# Altium footprint library HANDS-FREEE-PcbLib-V1.11.PcbLib: 211 footprints (part 11 of 14)
Each footprint in its own frame and in the unit in brackets; x right, y up, seen from the top. Pads: shape width x height; smd on the part's side, far side on the other; paste and mask are expansions set on the pad; w line width, h text height; cw(c..) or ccw(c..) is an arc to the next point about the centre after c.
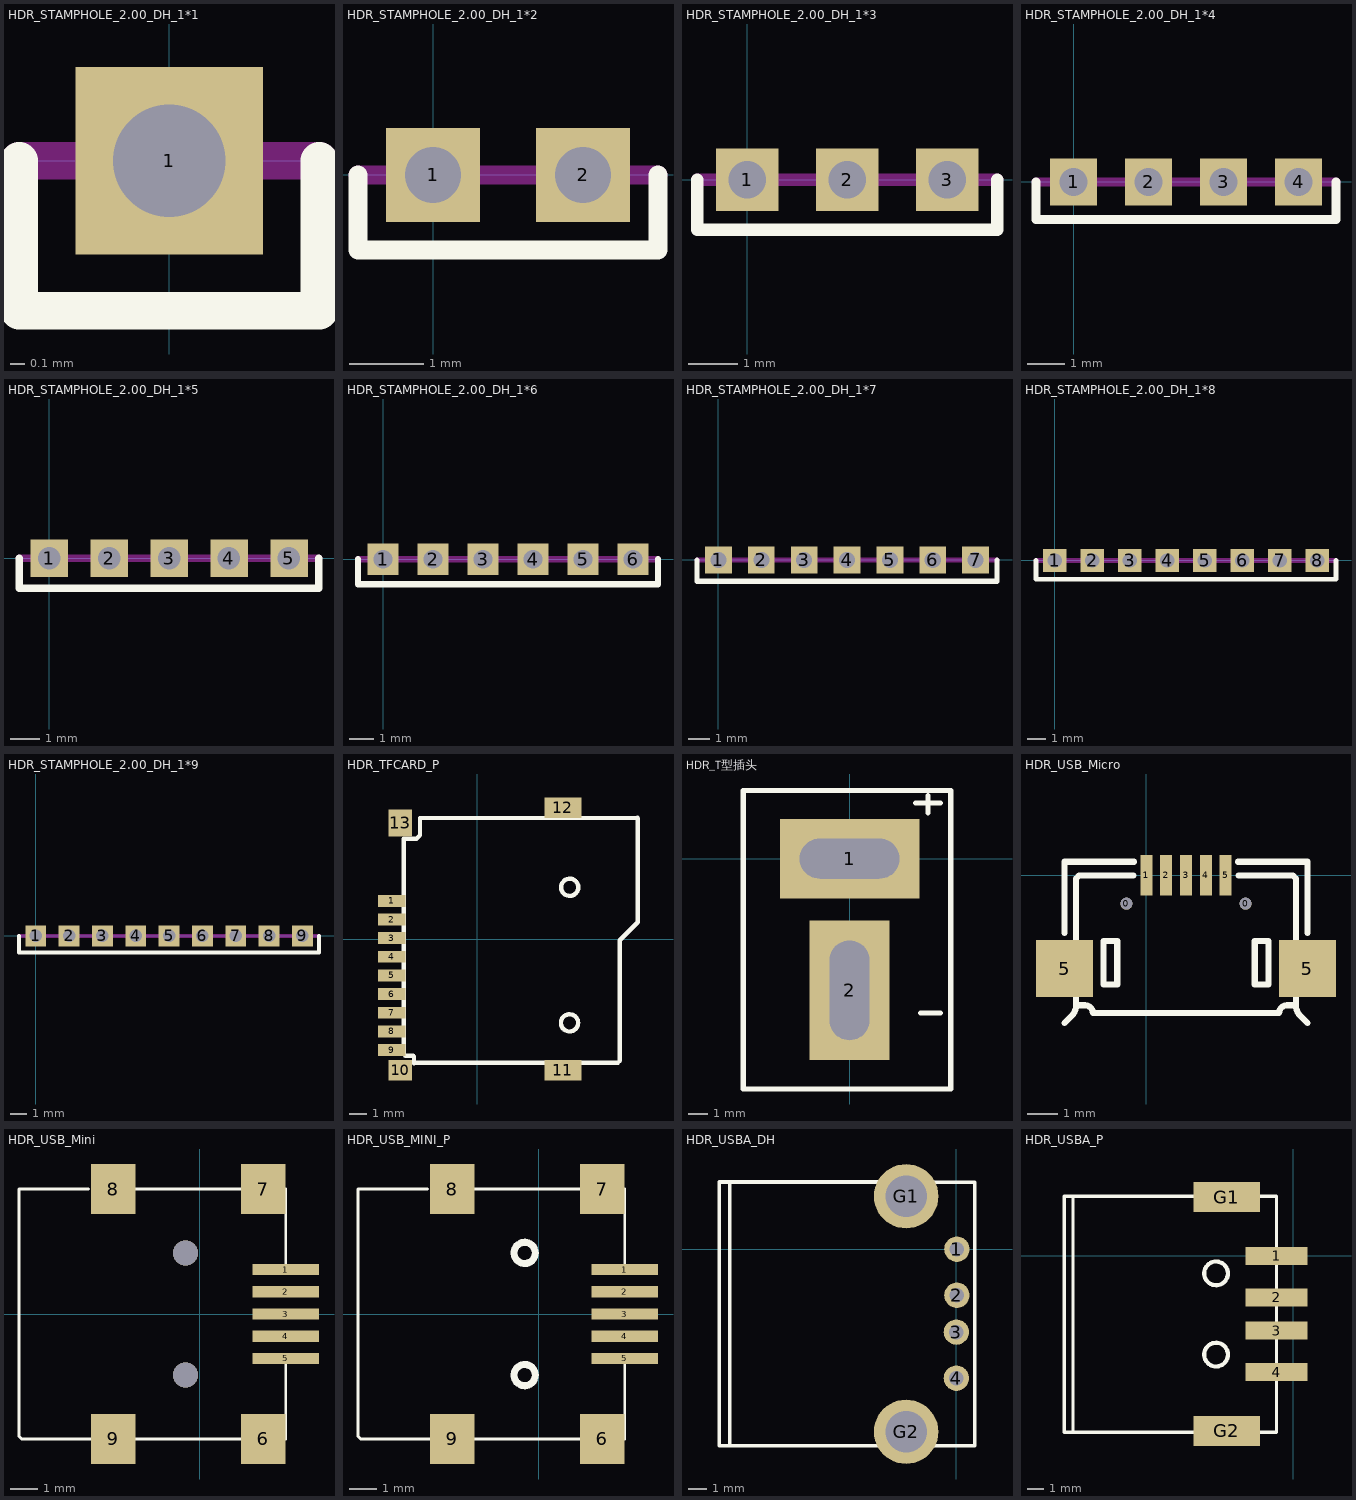
[diagram p10: the footprints below, top view; thin cyan lines are the x and y axes]

## HDR_STAMPHOLE_2.00_DH_1*1 [mil]
pads (1):
  rect 50x50 hole 30: 1(0,0)
Top Overlay:
  lines w10: -40,0 -40,-40 40,-40 40,0
Keep-Out Layer:
  lines w10: -40,0 40,0

## HDR_STAMPHOLE_2.00_DH_1*2 [mil]
pads (2):
  rect 50x50 hole 30: 1(0,0) 2(80,0)
Top Overlay:
  lines w10: -40,0 -40,-40 120,-40 120,0
Keep-Out Layer:
  lines w10: -40,0 120,0

## HDR_STAMPHOLE_2.00_DH_1*3 [mil]
pads (3):
  rect 50x50 hole 30: 1(0,0) 2(80,0) 3(160,0)
Top Overlay:
  lines w10: -40,0 -40,-40 200,-40 200,0
Keep-Out Layer:
  lines w10: -40,0 200,0

## HDR_STAMPHOLE_2.00_DH_1*4 [mil]
pads (4):
  rect 50x50 hole 30: 1(0,0) 2(80,0) 3(160,0) 4(240,0)
Top Overlay:
  lines w10: -40,0 -40,-40 280,-40 280,0
Keep-Out Layer:
  lines w10: -40,0 280,0

## HDR_STAMPHOLE_2.00_DH_1*5 [mil]
pads (5):
  rect 50x50 hole 30: 1(0,0) 2(80,0) 3(160,0) 4(240,0) 5(320,0)
Top Overlay:
  lines w10: -40,0 -40,-40 360,-40 360,0
Keep-Out Layer:
  lines w10: -40,0 360,0

## HDR_STAMPHOLE_2.00_DH_1*6 [mil]
pads (6):
  rect 50x50 hole 30: 1(0,0) 2(80,0) 3(160,0) 4(240,0) 5(320,0) 6(400,0)
Top Overlay:
  lines w10: -40,0 -40,-40 440,-40 440,0
Keep-Out Layer:
  lines w10: -40,0 440,0

## HDR_STAMPHOLE_2.00_DH_1*7 [mil]
pads (7):
  rect 50x50 hole 30: 1(0,0) 2(80,0) 3(160,0) 4(240,0) 5(320,0) 6(400,0) 7(480,0)
Top Overlay:
  lines w10: -40,0 -40,-40 520,-40 520,0
Keep-Out Layer:
  lines w10: -40,0 520,0

## HDR_STAMPHOLE_2.00_DH_1*8 [mil]
pads (8):
  rect 50x50 hole 30: 1(0,0) 2(80,0) 3(160,0) 4(240,0) 5(320,0) 6(400,0) 7(480,0) 8(560,0)
Top Overlay:
  lines w10: -40,0 -40,-40 600,-40 600,0
Keep-Out Layer:
  lines w10: -40,0 600,0

## HDR_STAMPHOLE_2.00_DH_1*9 [mil]
pads (9):
  rect 50x50 hole 30: 1(0,0) 2(80,0) 3(160,0) 4(240,0) 5(320,0) 6(400,0) 7(480,0) 8(560,0) 9(640,0)
Top Overlay:
  lines w10: -40,0 -40,-40 680,-40 680,0
Keep-Out Layer:
  lines w10: -40,0 680,0

## HDR_TFCARD_P [mm]
pads (13):
  rect 1.6x0.7 smd: 1(-5.05,2.25) 2(-5.05,1.15) 3(-5.05,0.05) 4(-5.05,-1.05) 5(-5.05,-2.15) 6(-5.05,-3.25) 7(-5.05,-4.35) 8(-5.05,-5.45) 9(-5.05,-6.55)
  rect 1.4x1.2 smd: 10(-4.55,-7.75)
  rect 2.2x1.2 smd: 11(5.05,-7.75) 12(5.05,7.75)
  rect 1.4x1.6 smd: 13(-4.55,6.85)
Top Overlay:
  circle w0.254: c5.439,-4.948 r0.508
  circle w0.254: c5.45,3.05 r0.508
  lines w0.254: -3.738,-7.344 -3.738,-6.937 -3.789,-6.886 -4.246,-6.886 -4.348,-6.785 -4.348,5.915 -3.586,5.915 -3.383,6.118 -3.383,7.134 9.45,7.15 ; -3.688,-7.293 8.301,-7.293 8.403,-7.191 8.403,-0.079 9.47,0.988 9.47,7.13

## HDR_T型插头 [mm]
pads (2):
  rect 7x4 hole 2 slot 5 at 0 deg: 1(0,0)
  rect 4x7 hole 2 slot 5 at 90 deg: 2(0,-6.604)
Top Overlay:
  lines w0.254: 3.302,2.794 4.572,2.794 ; 3.556,-7.747 4.572,-7.747 ; 3.937,2.286 3.937,3.175 ; -5.334,-11.557 -5.334,3.429 -5.08,3.429 5.08,3.429 5.08,-11.557 -5.334,-11.557

## HDR_USB_Micro [mm]
pads (9):
  round 0.4 hole 0.4: 0(-0.66,-0.94) 0(3.302,-0.94)
  rect 0.4x1.35 smd: 1(0,0) 2(0.66,0) 3(1.321,0) 4(1.981,0) 5(2.642,0)
  rect 1.9x1.9 smd: 5(-2.718,-3.099) 5(5.359,-3.099)
Top Overlay:
  lines w0.203: -2.718,-4.902 -2.48,-4.665 ccw(c-2.827,-4.318) -2.337,-4.318 ; -2.718,-1.905 -2.718,0.457 -0.406,0.457 ; -0.432,0 -2.235,0 -2.337,-0.102 -2.337,-2.845 -2.337,-4.318 ; 3.048,0.457 5.359,0.457 5.359,-1.905 ; 3.073,0 4.877,0 4.978,-0.102 4.978,-2.845 4.978,-4.318 ; 5.359,-4.902 5.122,-4.665 cw(c5.469,-4.318) 4.978,-4.318 ; -2.337,-4.318 -2.032,-4.318 cw(c-2.032,-4.572) -1.778,-4.572 4.42,-4.572 cw(c4.674,-4.572) 4.674,-4.318 4.978,-4.318 ; -1.422,-3.632 -0.965,-3.632 -0.965,-2.184 -1.422,-2.184 -1.422,-3.632 ; 3.607,-3.632 4.064,-3.632 4.064,-2.184 3.607,-2.184 3.607,-3.632

## HDR_USB_Mini [mm]
pads (9):
  rect 2.4x0.4 smd: 1(3.1,1.6) 2(3.1,0.8) 3(3.1,0) 4(3.1,-0.8) 5(3.1,-1.6)
  rect 1.6x1.8 smd: 6(2.3,-4.5) 7(2.3,4.5) 8(-3.1,4.5) 9(-3.1,-4.5)
via -0.5,-2.2 diameter 0.9 hole 0.9
via -0.5,2.2 diameter 0.9 hole 0.9
Top Overlay:
  lines w0.1: -4,4.5 -6.5,4.5 -6.5,-4.4 -6.4,-4.5 -3.9,-4.5 ; -2.3,-4.5 1.5,-4.5 ; -2.3,4.5 1.5,4.5 ; 3.1,-4.5 3.1,-1.8 ; 3.1,1.8 3.1,4.5

## HDR_USB_MINI_P [mm]
pads (9):
  rect 2.4x0.4 smd: 1(3.1,1.6) 2(3.1,0.8) 3(3.1,0) 4(3.1,-0.8) 5(3.1,-1.6)
  rect 1.6x1.8 smd: 6(2.3,-4.5) 7(2.3,4.5) 8(-3.1,4.5) 9(-3.1,-4.5)
Top Overlay:
  circle w0.254: c-0.5,2.2 r0.383
  circle w0.254: c-0.5,-2.2 r0.383
  lines w0.1: -4,4.5 -6.5,4.5 -6.5,-4.4 -6.4,-4.5 -3.9,-4.5 ; -2.3,-4.5 1.5,-4.5 ; -2.3,4.5 1.5,4.5 ; 3.1,-4.5 3.1,-1.8 ; 3.1,1.8 3.1,4.5

## HDR_USBA_DH [mm]
pads (6):
  round 1.4 hole 0.8: 1(0.028,0) 2(0.028,-2.54) 3(0,-4.572) 4(0,-7.112)
  round 3.556 hole 2.286: G1(-2.767,2.921) G2(-2.771,-10.068)
Top Overlay:
  lines w0.2: -13.081,-10.847 -2.779,-10.847 ; -13.081,3.707 -2.768,3.707
  lines w0.203: -13.081,-10.847 -13.081,3.707 ; -12.502,-10.847 -12.502,3.707 ; -2.771,-10.839 1.019,-10.839 1.019,-6.967 1.019,-0.068 1.019,3.699 -2.76,3.699

## HDR_USBA_P [mil]
pads (6):
  rect 150x44 smd: 1(-40,0) 2(-40,-100) 3(-40,-180) 4(-40,-280)
  rect 160x72 smd: G1(-160,142) G2(-160,-422)
Top Overlay:
  circle w10: c-186,-42 r28.6
  circle w10: c-186,-238 r28.6
  lines w8: -531.21,-426.1 -531.21,143 ; -552,-425.1 -40,-425.1 -40,144 -552,144 -552,-425.1